# EAGLE library part DMN3018SSD-13 (library Shield)
Diodes Inc DMN3018SSD-13 N-channel MOSFET Transistor, 8.7 A, 30 V, 8-Pin SOIC Source: Datasheet <https://componentsearchengine.com/Datasheets/1/DMN3018SSD-13.pdf>
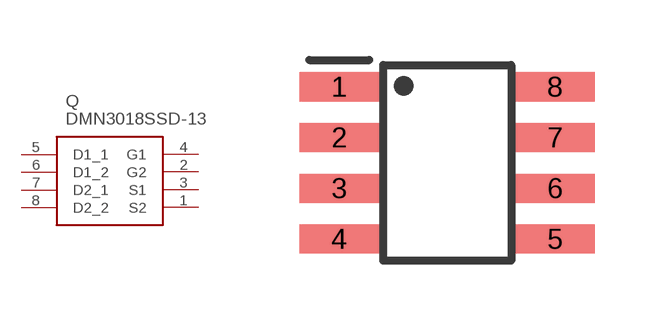
[diagram p0: symbol with the pads of SOIC127P600X175-8N; footprint SOIC127P600X175-8N]

Designator prefix Q

## DMN3018SSD-13 (DESCRIPTION: Diodes Inc DMN3018SSD-13 N-channel MOSFET Transistor, 8.7 A, 30 V, 8-Pin SOIC; HEIGHT: 1.75mm; MANUFACTURER_NAME: Diodes Inc.; MANUFACTURER_PART_NUMBER: DMN3018SSD-13; MOUSER_PART_NUMBER: 621-DMN3018SSD-13; MOUSER_PRICE-STOCK: https://www.mouser.com/Search/Refine.aspx?Keyword=621-DMN3018SSD-13)  [SOIC127P600X175-8N]
1  S2
2  G2
3  S1
4  G1
5  D1_1
6  D1_2
7  D2_1
8  D2_2

## Footprint SOIC127P600X175-8N (pad centres in mm)
SO-8
smd 1.981 x 0.726: 1 -2.7,1.905; 2 -2.7,0.635; 3 -2.7,-0.635; 4 -2.7,-1.905; 5 2.7,-1.905; 6 2.7,-0.635; 7 2.7,0.635; 8 2.7,1.905